# EAGLE library part 74LV4051 (library graftel-internal-ic)
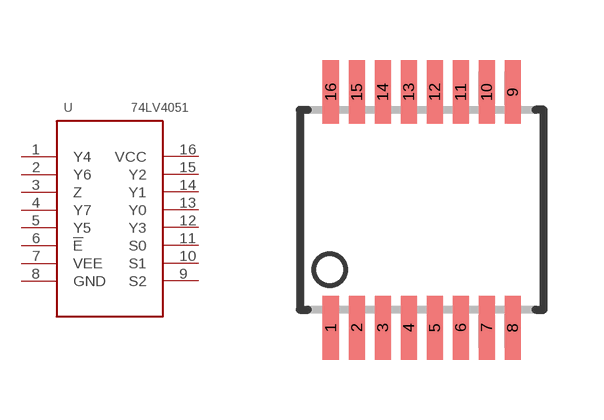
[diagram p34: symbol with the pads of TSSOP16; footprint TSSOP16]

Designator prefix U

## 74LV4051  [TSSOP16]
1  Y4
2  Y6
3  Z
4  Y7
5  Y5
6  !E
7  VEE
8  GND
9  S2
10  S1
11  S0
12  Y3
13  Y0
14  Y1
15  Y2
16  VCC

## Footprint TSSOP16 (pad centres in mm)
TSOP16 thin small outline package
smd 0.4 x 1.6: 1 -2.225,-2.85; 2 -1.575,-2.85; 3 -0.925,-2.85; 4 -0.275,-2.85; 5 0.375,-2.85; 6 1.025,-2.85; 7 1.675,-2.85; 8 2.325,-2.85; 9 2.325,3.05; 10 1.675,3.05; 11 1.025,3.05; 12 0.375,3.05; 13 -0.275,3.05; 14 -0.925,3.05; 15 -1.575,3.05; 16 -2.225,3.05